# Altium schematic symbol library UCY2C471MHD6.SchLib: 1 symbol
Pins are listed as number, name and electrical type; pins without a type are passive.

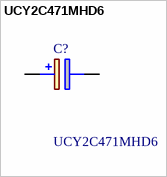
[diagram p0: symbol UCY2C471MHD6]

## UCY2C471MHD6
designator C?
CAP ALUM 470UF 20% 160V RADIAL; Manufacturer_Name: Nichicon; Geometry.Height: 41.5mm; Mouser Part Number: 647-UCY2C471MHD6; Mouser Price/Stock: https://www.mouser.co.uk/ProductDetail/Nichicon/UCY2C471MHD6?qs=Ajmft%252BTTukHkiHPzGp0CjQ%3D%3D; Manufacturer_Part_Number: UCY2C471MHD6; Datasheet Link: https://products.nichicon.co.jp/en/part_search/part_list.cfm#
footprint CAPPRD750W80D1625H4150
pins: 1 +, 2 -